# EAGLE library part -4017 (library my_tango)
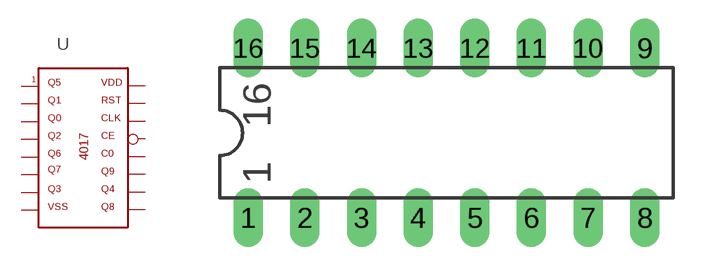
[diagram p18: symbol with the pads of DIL16; footprint DIL16]

Designator prefix -

## -4017  [DIL16]
1  Q5  out
2  Q1  out
3  Q0  out
4  Q2  out
5  Q6  out
6  Q7  out
7  Q3  out
8  VSS  pwr
9  Q8  out
10  Q4  out
11  Q9  out
12  C0  out
13  CE  in
14  CLK  in
15  RST  in
16  VDD  pwr

## Footprint DIL16 (pad centres in mm)
Dual In Line Package
drill 0.813 long: 1 -8.89,-3.81; 2 -6.35,-3.81; 3 -3.81,-3.81; 4 -1.27,-3.81; 5 1.27,-3.81; 6 3.81,-3.81; 7 6.35,-3.81; 8 8.89,-3.81; 9 8.89,3.81; 10 6.35,3.81; 11 3.81,3.81; 12 1.27,3.81; 13 -1.27,3.81; 14 -3.81,3.81; 15 -6.35,3.81; 16 -8.89,3.81